# Altium schematic symbol library photounit.SCHLIB: 22 symbols
Pins are listed as number, name and electrical type; pins without a type are passive.

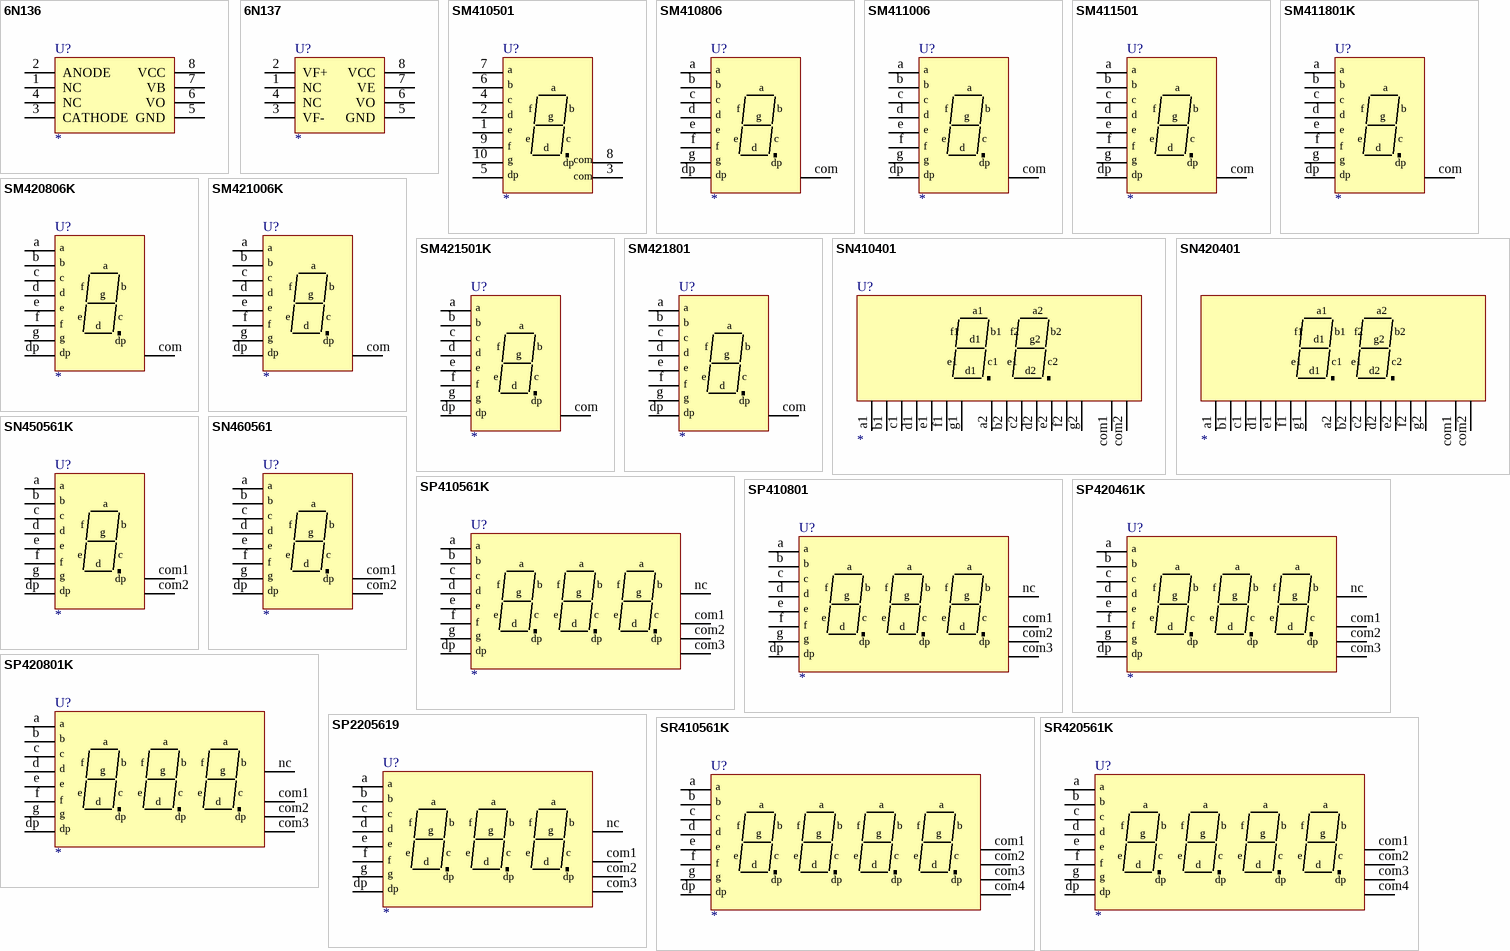
[diagram p0: symbols 6N136 to SR420561K]

## 6N136
designator U?
光耦
footprint DIP-8N
pins: 1 NC, 2 ANODE, 3 CATHODE, 4 NC (power), 5 GND, 6 VO, 7 VB, 8 VCC (power)

## 6N137
designator U?
光耦
footprint 6N137
footprint DIP-8N
pins: 1 NC, 2 VF+, 3 VF-, 4 NC (power), 5 GND, 6 VO, 7 VE, 8 VCC (power)

## SM410501
designator U?
pins: 1 e, 2 d, 3 com, 4 c, 5 dp, 6 b, 7 a, 8 com, 9 f, 10 g

## SM410806
designator U?
CP-SM410806
footprint SM410806
pins: a, b, c, com, d, dp, e, f, g

## SM411006
designator U?
CP-SM411006
footprint SM411006
pins: a, b, c, com, d, dp, e, f, g

## SM411501
designator U?
CP-SM411501
footprint SM411501
pins: a, b, c, com, d, dp, e, f, g

## SM411801K
designator U?
CP-SM411801K
footprint SM411801
pins: a, b, c, com, d, dp, e, f, g

## SM420806K
designator U?
CP-SM420806K
footprint SM420806
pins: a, b, c, com, d, dp, e, f, g

## SM421006K
designator U?
CP-SM421006K
footprint SM421006
pins: a, b, c, com, d, dp, e, f, g

## SM421501K
designator U?
CP-SM421501K
footprint SM421501
pins: a, b, c, com, d, dp, e, f, g

## SM421801
designator U?
CP-SM421801
footprint SM421801
pins: a, b, c, com, d, dp, e, f, g

## SN410401
designator U?
CP-SN410401
footprint SN410401
pins: a1, a2, b1, b2, c1, c2, com1, com2, d1, d2, e1, e2, f1, f2, g1, g2

## SN420401
designator ?
pins: a1, a2, b1, b2, c1, c2, com1, com2, d1, d2, e1, e2, f1, f2, g1, g2

## SN450561K
designator U?
CP-SN450561K
footprint SN450561
pins: a, b, c, com1, com2, d, dp, e, f, g

## SN460561
designator U?
CP-SN460561K
footprint SN460561
pins: a, b, c, com1, com2, d, dp, e, f, g

## SP410561K
designator U?
CP-SP410561K
footprint SP410561
pins: a, b, c, com1, com2, com3, d, dp, e, f, g, nc

## SP410801
designator U?
CP-SP410801
footprint SP410801
pins: a, b, c, com1, com2, com3, d, dp, e, f, g, nc

## SP420461K
designator U?
CP-SP420561K
footprint SP420561
pins: a, b, c, com1, com2, com3, d, dp, e, f, g, nc

## SP420801K
designator U?
CP-SP420801K
footprint SP420801
pins: a, b, c, com1, com2, com3, d, dp, e, f, g, nc

## SP2205619
designator U?
CP-SP2205619
footprint SP220561
pins: a, b, c, com1, com2, com3, d, dp, e, f, g, nc

## SR410561K
designator U?
CP-SR410561K
footprint SR410561
pins: a, b, c, com1, com2, com3, com4, d, dp, e, f, g

## SR420561K
designator U?
CP-SR420561K
footprint SR420561
pins: a, b, c, com1, com2, com3, com4, d, dp, e, f, g